# Altium footprint library OSCCC600X360X120.PcbLib: 1 footprints
Each footprint in its own frame and in the unit in brackets; x right, y up, seen from the top. Pads: shape width x height; smd on the part's side, far side on the other; paste and mask are expansions set on the pad; w line width, h text height; cw(c..) or ccw(c..) is an arc to the next point about the centre after c.
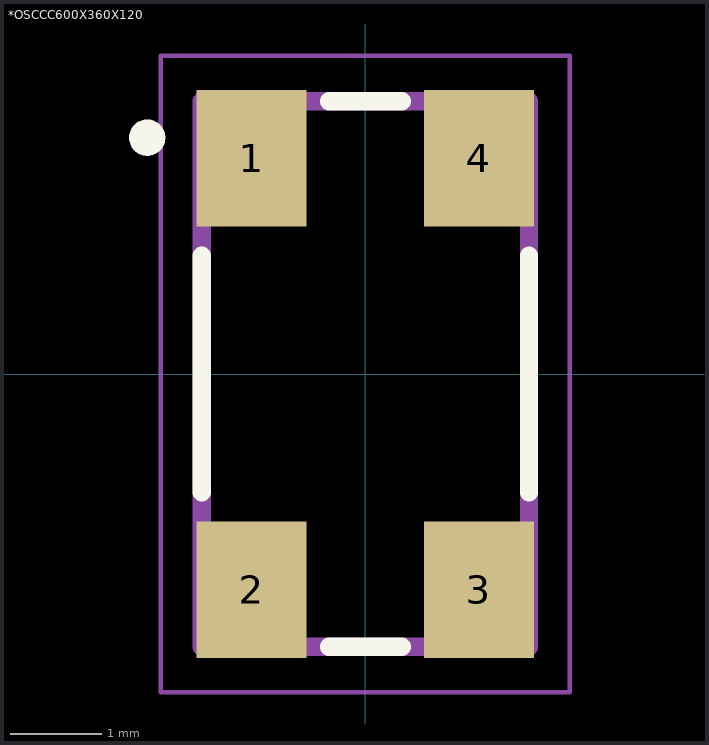
[diagram p0: the footprint, top view; thin cyan lines are the x and y axes]

## *OSCCC600X360X120 [mm]
pads (4):
  rect 1.21x1.5 smd: 1(-1.25,2.375) 2(-1.25,-2.375) 3(1.25,-2.375) 4(1.25,2.375)
Top Overlay:
  circle w0.2: c-2.4,2.6 r0.1
  lines w0.2: -1.8,-1.3 -1.8,1.3 ; -0.4,-3 0.4,-3 ; -0.4,3 0.4,3 ; 1.8,-1.3 1.8,1.3
Mechanical 4:
  lines w0.2: -1.8,-3 1.8,-3 ; -1.8,-3 -1.8,3 ; -1.8,-3 1.8,-3 ; -1.8,-3 -1.8,3 ; -1.8,3 1.8,3 ; -1.8,3 1.8,3 ; 1.8,-3 1.8,3 ; 1.8,-3 1.8,3
Mechanical 16:
  lines w0.05: -2.25,-3.5 2.25,-3.5 2.25,3.5 -2.25,3.5 -2.25,-3.5